# EAGLE library part CONNECTOR-HEADER-2X3P (library OPL5)
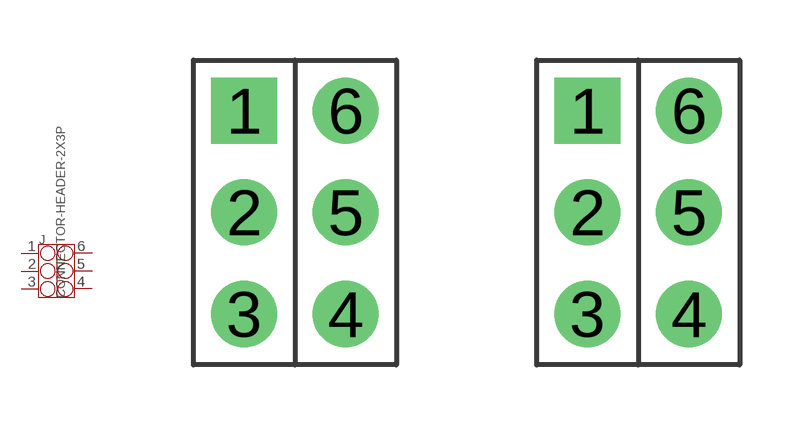
[diagram p14: symbol with the pads of 2X3P-2.54-2.54-11.6-3.0-BLACK-MALE; footprints 2X3P-2.54-2.54-11.6-3.0-BLACK-MALE, 2X3P-2.54-8.5+1.5-12.3-BLUE-FEMALE]

Designator prefix J

## CONNECTOR-HEADER-2X3P-3460180P1  [2X3P-2.54-2.54-11.6-3.0-BLACK-MALE]
1  1  out
2  2  out
3  3  out
4  4  out
5  5  out
6  6  out

## CONNECTOR-HEADER-2X3P-3461240P1  [2X3P-2.54-8.5+1.5-12.3-BLUE-FEMALE]
Pads as for 2X3P-2.54-2.54-11.6-3.0-BLACK-MALE

## Footprint 2X3P-2.54-2.54-11.6-3.0-BLACK-MALE (pad centres in mm)
drill 0.889 pad 1.651 square: 1 -1.27,2.54
drill 0.889 pad 1.651 round: 2 -1.27,0; 3 -1.27,-2.54; 4 1.27,-2.54; 5 1.27,0; 6 1.27,2.54

## Footprint 2X3P-2.54-8.5+1.5-12.3-BLUE-FEMALE (pad centres in mm)
drill 0.889 pad 1.651 square: 1 -1.27,2.54
drill 0.889 pad 1.651 round: 2 -1.27,0; 3 -1.27,-2.54; 4 1.27,-2.54; 5 1.27,0; 6 1.27,2.54